# Altium schematic symbol library SMD Resistors.SchLib: 4 symbols
Pins are listed as number, name and electrical type; pins without a type are passive.

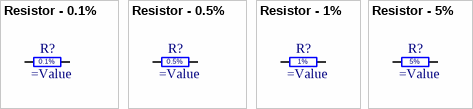
[diagram p0: symbols Resistor - 0.1% to Resistor - 5%]

## Resistor - 0.1%
designator R?
pins: 1, 2
text: 0.1%

## Resistor - 0.5%
designator R?
pins: 1, 2
text: 0.5%

## Resistor - 1%
designator R?
pins: 1, 2
text: 1%

## Resistor - 5%
designator R?
pins: 1, 2
text: 5%